# Altium footprint library 电子脚铐手表主控板V3-改版.PcbLib: 15 footprints
Each footprint in its own frame and in the unit in brackets; x right, y up, seen from the top. Pads: shape width x height; smd on the part's side, far side on the other; paste and mask are expansions set on the pad; w line width, h text height; cw(c..) or ccw(c..) is an arc to the next point about the centre after c.
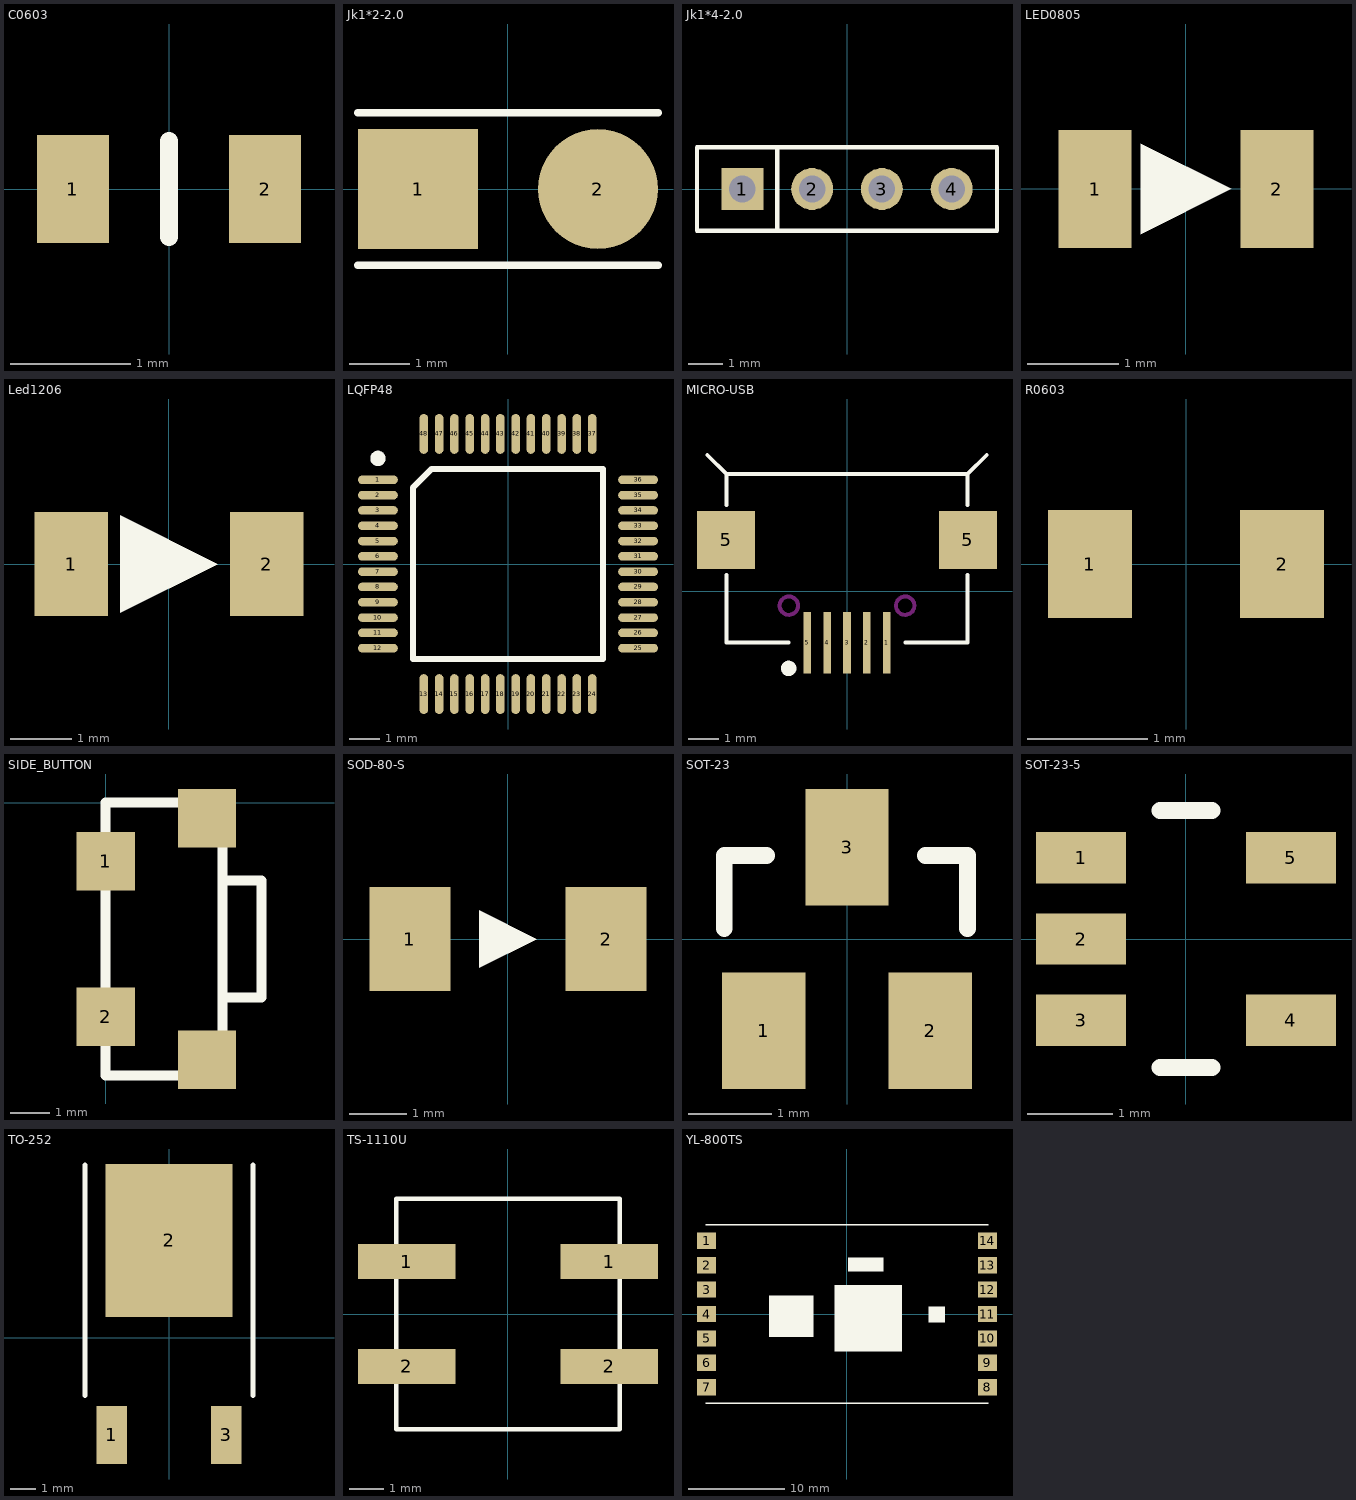
[diagram p0: the footprints below, top view; thin cyan lines are the x and y axes]

## C0603 [mm]
height 0.8
pads (2):
  rect 0.6x0.9 smd: 1(-0.8,0) 2(0.8,0)
Top Overlay:
  lines w0.152: 0,-0.4 0,0.4
3D body: height 0.5, standoff 0, extent -0.8,-0.4 0.8,0.4

## Jk1*2-2.0 [mm]
pads (2):
  rect 2x2 smd: 1(-1.5,0)
  round 2 smd: 2(1.5,0)
Top Overlay:
  lines w0.127: -2.5,-1.27 2.5,-1.27 ; -2.5,1.27 2.5,1.27

## Jk1*4-2.0 [mm] "4P，直插，2.0mm间距，排母"
height 4.3
pads (4):
  rect 1.2x1.2 hole 0.762: 1(-3,0)
  round 1.2 hole 0.762: 2(-1,0) 3(1,0) 4(3,0)
Top Overlay:
  lines w0.127: -2,-1.2 -2,1.2 ; -4.3,-1.2 4.3,-1.2 4.3,1.2 -4.3,1.2 -4.3,-1.2
3D body: height 4.3, standoff -3, extent -4.25,-1.225 4.25,1.175

## LED0805 [mm]
pads (2):
  rect 0.8x1.3 smd: 1(-1,0) 2(1,0)
Top Overlay:
  region: -0.5,0.5 -0.5,-0.5 0.5,0
3D body: height 0.8, standoff 0, extent -1.05,-0.675 1.05,0.675

## Led1206 [mm]
height 1.1
pads (2):
  rect 1.2x1.7 smd: 1(-1.6,0) 2(1.6,0)
Top Overlay:
  region: -0.8,0.8 -0.8,-0.8 0.8,0
3D body: height 1.1, standoff 0, extent -1.575,-0.8 1.625,0.8

## LQFP48 [mm]
height 1.6
pads (48):
  oval 1.3x0.28 smd: 1(-4.25,2.75) 2(-4.25,2.25) 3(-4.25,1.75) 4(-4.25,1.25) 5(-4.25,0.75) 6(-4.25,0.25) 7(-4.25,-0.25) 8(-4.25,-0.75) 9(-4.25,-1.25) 10(-4.25,-1.75) 11(-4.25,-2.25) 12(-4.25,-2.75) 25(4.25,-2.75) 26(4.25,-2.25) 27(4.25,-1.75) 28(4.25,-1.25) 29(4.25,-0.75) 30(4.25,-0.25) 31(4.25,0.25) 32(4.25,0.75) 33(4.25,1.25) 34(4.25,1.75) 35(4.25,2.25) 36(4.25,2.75)
  oval 0.28x1.3 smd: 13(-2.75,-4.25) 14(-2.25,-4.25) 15(-1.75,-4.25) 16(-1.25,-4.25) 17(-0.75,-4.25) 18(-0.25,-4.25) 19(0.25,-4.25) 20(0.75,-4.25) 21(1.25,-4.25) 22(1.75,-4.25) 23(2.25,-4.25) 24(2.75,-4.25) 37(2.75,4.25) 38(2.25,4.25) 39(1.75,4.25) 40(1.25,4.25) 41(0.75,4.25) 42(0.25,4.25) 43(-0.25,4.25) 44(-0.75,4.25) 45(-1.25,4.25) 46(-1.75,4.25) 47(-2.25,4.25) 48(-2.75,4.25)
Top Overlay:
  circle w0.25: c-4.25,3.45 r0.125
  lines w0.203: -3.1,-3.1 -3.1,2.5 -2.5,3.1 3.1,3.1 3.1,-3.1 -3.1,-3.1
3D body: height 1.8, standoff -0.01, extent -4.495,-4.5 4.505,4.5

## MICRO-USB [mm]
height 3.632
pads (7):
  rect 0.25x2 smd: 1(1.3,-1.679) 2(0.65,-1.679) 3(0,-1.679) 4(-0.65,-1.679) 5(-1.3,-1.679)
  rect 1.9x1.9 smd: 5(-3.95,1.679) 5(3.95,1.679)
Top Overlay:
  circle w0.25: c-1.905,-2.519 r0.125
  lines w0.127: -4.567,4.459 -3.937,3.829 -3.937,2.813 ; -3.937,-1.679 -3.937,0.527 ; -3.9,-1.679 -1.905,-1.679 ; -3.9,3.829 3.9,3.829 ; 1.905,-1.679 3.9,-1.679 ; 3.937,-1.679 3.937,0.527 ; 3.937,2.813 3.937,3.829 4.567,4.459
Keep-Out Layer:
  circle w0.127: c-1.9,-0.471 r0.3
  circle w0.127: c1.9,-0.471 r0.3
3D body: height 2.77, standoff -0.17, extent -4.1,-1.753 4.1,4.177

## R0603 [mm]
height 0.4
pads (2):
  rect 0.7x0.9 smd: 1(-0.8,0) 2(0.8,0)
3D body: height 0.37, standoff 0, extent -0.8,-0.401 0.8,0.401

## SIDE_BUTTON [mm] "SMD Button Side Activated"
height 4.3
pads (4):
  rect 1.5x1.5 smd: 1(0,-1.5) 2(0,-5.5) ""(2.6,-6.6) ""(2.6,-0.4)
Top Overlay:
  lines w0.254: 3,-5 4,-5 4,-2 3,-2 ; 0,-7 0,0 3,0 3,-7 0,-7
3D body: height 3, standoff 0.5, extent 2.2,-6.599 3.196,-5.601
3D body: height 3, standoff 0.5, extent 2.204,-1.399 3.2,-0.401
3D body: height 3.5, standoff 0, extent 2.9,-7 3,0
3D body: height 2.5, standoff 1, extent 3,-5 4,-2
3D body: height 3.5, standoff 0, extent 0,-6.5 2.9,-0.5

## SOD-80-S [mm]
height 4.3
pads (2):
  rect 1.4x1.8 smd: 1(-1.7,0) 2(1.7,0)
Top Overlay:
  region: -0.5,0.5 -0.5,-0.5 0.5,0
3D body: height 1.6, standoff 0, extent -1.85,-0.787 1.85,0.813

## SOT-23 [mm]
height 4.3
pads (3):
  rect 1x1.4 smd: 1(-1,-1.1) 2(1,-1.1) 3(0,1.1)
Top Overlay:
  lines w0.203: -1.473,0.127 -1.473,1 -0.965,1 ; 0.94,1 1.448,1 1.448,0.127
3D body: height 1.3, standoff 0, extent -1.45,-1.4 1.45,1.4

## SOT-23-5 [mm]
height 4.3
pads (5):
  rect 1.05x0.6 smd: 1(-1.225,0.95) 2(-1.225,0) 3(-1.225,-0.95) 4(1.225,-0.95) 5(1.225,0.95)
Top Overlay:
  lines w0.2: -0.3,-1.5 0.3,-1.5 ; -0.3,1.5 0.3,1.5
3D body: height 1.2, standoff -0.02, extent -1.5,-1.5 1.5,1.5

## TO-252 [mm]
height 2.4
pads (3):
  rect 1.2x2.28 smd: 1(-2.25,-3.816) 3(2.25,-3.816)
  rect 5x6 smd: 2(0,3.816)
Top Overlay:
  lines w0.203: -3.3,-2.274 -3.3,6.776 ; 3.3,-2.274 3.3,6.776
3D body: height 2.3, standoff 0, extent -3.25,-3.62 3.25,5.68

## TS-1110U [mm]
height 5
pads (4):
  rect 2.8x1 smd: 1(-2.9,1.5) 1(2.9,1.5) 2(-2.9,-1.5) 2(2.9,-1.5)
Top Overlay:
  lines w0.127: -3.2,-3.3 3.2,-3.3 3.2,3.3 -3.2,3.3 -3.2,-3.3
3D body: height 4.95, standoff -0.06, extent -3.2,-3.3 3.2,3.3

## YL-800TS [mm]
height 3
pads (14):
  rect 2x1.7 smd: 1(-14.6,7.62) 2(-14.6,5.08) 3(-14.6,2.54) 4(-14.6,0) 5(-14.6,-2.54) 6(-14.6,-5.08) 7(-14.6,-7.62) 8(14.6,-7.62) 9(14.6,-5.08) 10(14.6,-2.54) 11(14.6,0) 12(14.6,2.54) 13(14.6,5.08) 14(14.6,7.62)
Top Overlay:
  rectangle: -1.3,-3.9 5.7,3
  rectangle: 8.5,-0.9 10.2,0.8
  rectangle: -8.1,-2.4 -3.5,1.9
  rectangle: 0.1,4.4 3.8,5.9
  lines w0.152: -14.7,-9.3 14.7,-9.3 ; -14.7,9.3 14.7,9.3
3D body: height 2.3, standoff 0, extent -14.7,-9.3 14.7,9.3